# Altium footprint library PCB - CONNECTOR - WURTH - WURTH MMCX 66012102111404.PcbLib: 1 footprints
Each footprint in its own frame and in the unit in brackets; x right, y up, seen from the top. Pads: shape width x height; smd on the part's side, far side on the other; paste and mask are expansions set on the pad; w line width, h text height; cw(c..) or ccw(c..) is an arc to the next point about the centre after c.
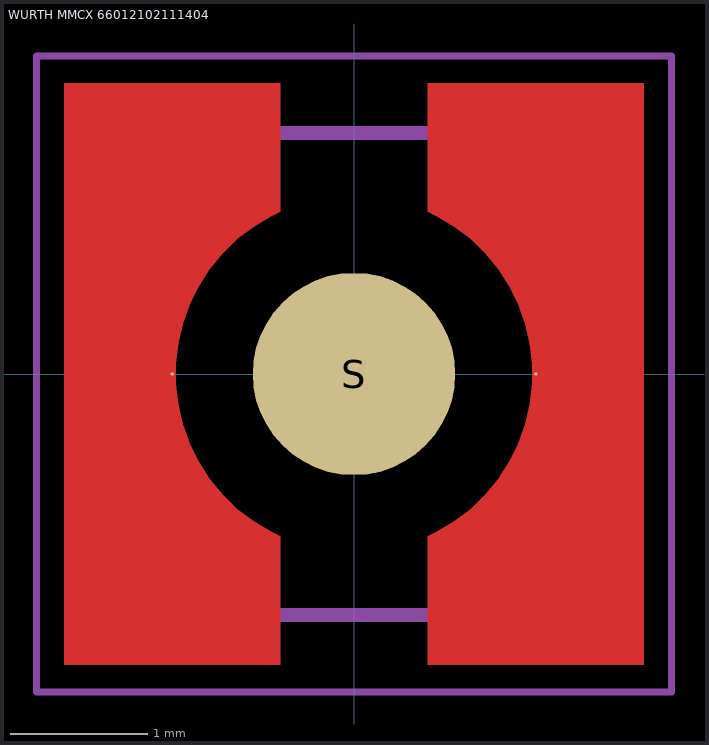
[diagram p0: the footprint, top view; thin cyan lines are the x and y axes]

## WURTH MMCX 66012102111404 [mil] "MMCX PCB SMT Jack"
height 196.85
pads (3):
  round 1 smd: G(-51.97,0) G(51.97,0)
  round 57.87 smd: S(0,0)
Top Layer:
  region: -82.87,-83.07 -82.87,83.07 -21.06,83.07 -21.06,46.43 -23.68,45.15 -28.69,42.15 -33.31,38.59 -37.51,34.54 -41.21,30.02 -44.37,25.12 -46.95,19.89 -48.91,14.39 -50.23,8.71 -50.9,2.92 -50.9,-2.92 -50.23,-8.71 -48.91,-14.39 -46.95,-19.89 -44.37,-25.12 -41.21,-30.02 -37.51,-34.54 -33.31,-38.59 -28.69,-42.15 -23.68,-45.15 -21.06,-46.43 -21.06,-83.07
  region: 82.87,-83.07 82.87,83.07 21.06,83.07 21.06,46.43 23.68,45.15 28.69,42.15 33.31,38.59 37.51,34.54 41.21,30.02 44.37,25.12 46.95,19.89 48.91,14.39 50.23,8.71 50.9,2.92 50.9,-2.92 50.23,-8.71 48.91,-14.39 46.95,-19.89 44.37,-25.12 41.21,-30.02 37.51,-34.54 33.31,-38.59 28.69,-42.15 23.68,-45.15 21.06,-46.43 21.06,-83.07
Top 3D Body:
  lines w3.94: 68.9,-68.9 68.9,68.9 ; 68.9,-68.9 -68.9,-68.9 -68.9,68.9 68.9,68.9 ; 68.9,-68.9 68.9,68.9
Top Component Outline:
  lines w3.94: 68.9,-68.9 68.9,68.9 ; 68.9,-68.9 -68.9,-68.9 -68.9,68.9 68.9,68.9 ; 68.9,-68.9 68.9,68.9
Top Courtyard:
  lines w1.97: -19.68,0 19.68,0 ; 0,-19.68 0,19.68 ; -90.75,-90.94 -90.75,90.94 90.75,90.94 90.75,-90.94 -90.75,-90.94
3D body "Wurth 66012102111404.step": height 195.87, standoff -0.98, extent -68.9,-68.9 68.9,68.9